# Altium footprint library DIODE.PcbLib: 2 footprints
Each footprint in its own frame and in the unit in brackets; x right, y up, seen from the top. Pads: shape width x height; smd on the part's side, far side on the other; paste and mask are expansions set on the pad; w line width, h text height; cw(c..) or ccw(c..) is an arc to the next point about the centre after c.
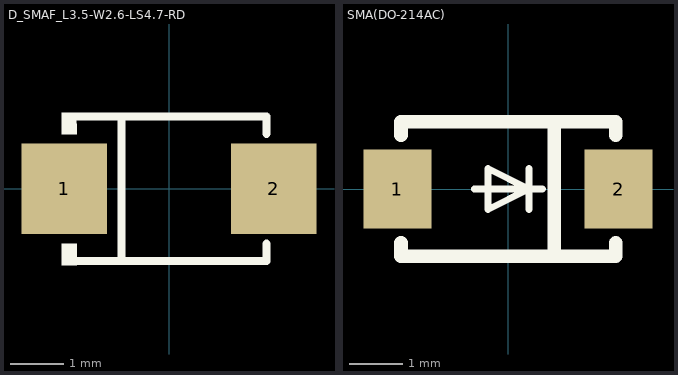
[diagram p0: the footprints below, top view; thin cyan lines are the x and y axes]

## D_SMAF_L3.5-W2.6-LS4.7-RD [mm]
pads (2):
  rect 1.6x1.7 smd paste+0 mask+0.051: 1(-1.96,0.001) 2(1.96,0.001)
Top Overlay:
  region: -2.01,-1.429 -1.73,-1.429 -1.73,-1.029 -2.01,-1.029
  region: -1.74,1.421 -2.01,1.421 -2.01,1.021 -1.73,1.021
  lines w0.152: -1.826,-1.35 1.826,-1.35 1.826,-1.029 ; -1.826,1.352 1.826,1.352 1.826,1.031 ; -0.892,-1.35 -0.892,1.352
Mechanical 15:
  region: 1.654,-0.681 1.96,-0.681 1.96,0.543 1.654,0.543
  region: 2.419,0.084 2.419,-0.222 1.195,-0.222 1.195,0.084
  region: -2.632,0.184 -2.632,-0.122 -1.408,-0.122 -1.408,0.184
3D body "SMAF.STEP": height 1, standoff -0.01, extent -2.65,-1.266 2.65,1.266

## SMA(DO-214AC) [mil]
pads (2):
  rect 50x57.9 smd paste+0 mask+2: 1(-81,0) 2(81,0)
Top Overlay:
  lines w5: -24.7,0 25.3,0 ; 15.3,-15 15.3,0 ; 15.3,15 15.3,0 ; 15.3,0 -14.7,15 -14.7,0 -14.7,-15 15.3,0
  lines w10: -78.4,-39.37 -78.4,-49.2 79,-49.2 79,-39.37 ; -78.4,39.37 -78.4,49.2 79,49.2 79,39.37 ; 34,-49 34,49
Mechanical 15:
  lines w0.1: 32.49,4.99 32.51,5.01
3D body "SMA (DO-214AC).STEP": height 90.55, standoff 0, extent -102.36,-57.09 102.36,57.09